# Altium integrated library ULN2003AID.IntLib: 1 symbol
Pins are listed as number, name and electrical type; pins without a type are passive.

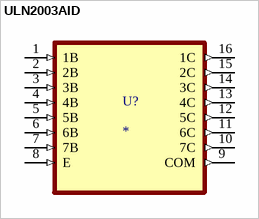
[diagram p0: symbol ULN2003AID]

## ULN2003AID
designator U?
50-V, 7-ch darlington transistor array, -40 to 105C 16-SOIC -40 to 105; MF: Texas Instruments; MP: ULN2003AID; Check_prices: https://www.snapeda.com/parts/ULN2003AID/Texas%20Instruments/view-part/1101113/?ref=eda; SnapEDA_Link: https://www.snapeda.com/parts/ULN2003AID/Texas%20Instruments/view-part/1101113/?ref=snap; Digi-Key_Part_Number: 296-15407-2-ND; Value: *; Purchase-URL: https://pricing.snapeda.com/search/part/ULN2003AID/?ref=eda; Package: SOIC-16 Texas Instruments
footprint SOIC127P600X175-16N
pins: 1 1B (in), 2 2B (in), 3 3B (in), 4 4B (in), 5 5B (in), 6 6B (in), 7 7B (in), 8 E (in), 9 COM (out), 10 7C (out), 11 6C (out), 12 5C (out), 13 4C (out), 14 3C (out), 15 2C (out), 16 1C (out)